# Altium schematic symbol library AVR32UC3.SchLib: 3 symbols
Pins are listed as number, name and electrical type; pins without a type are passive.

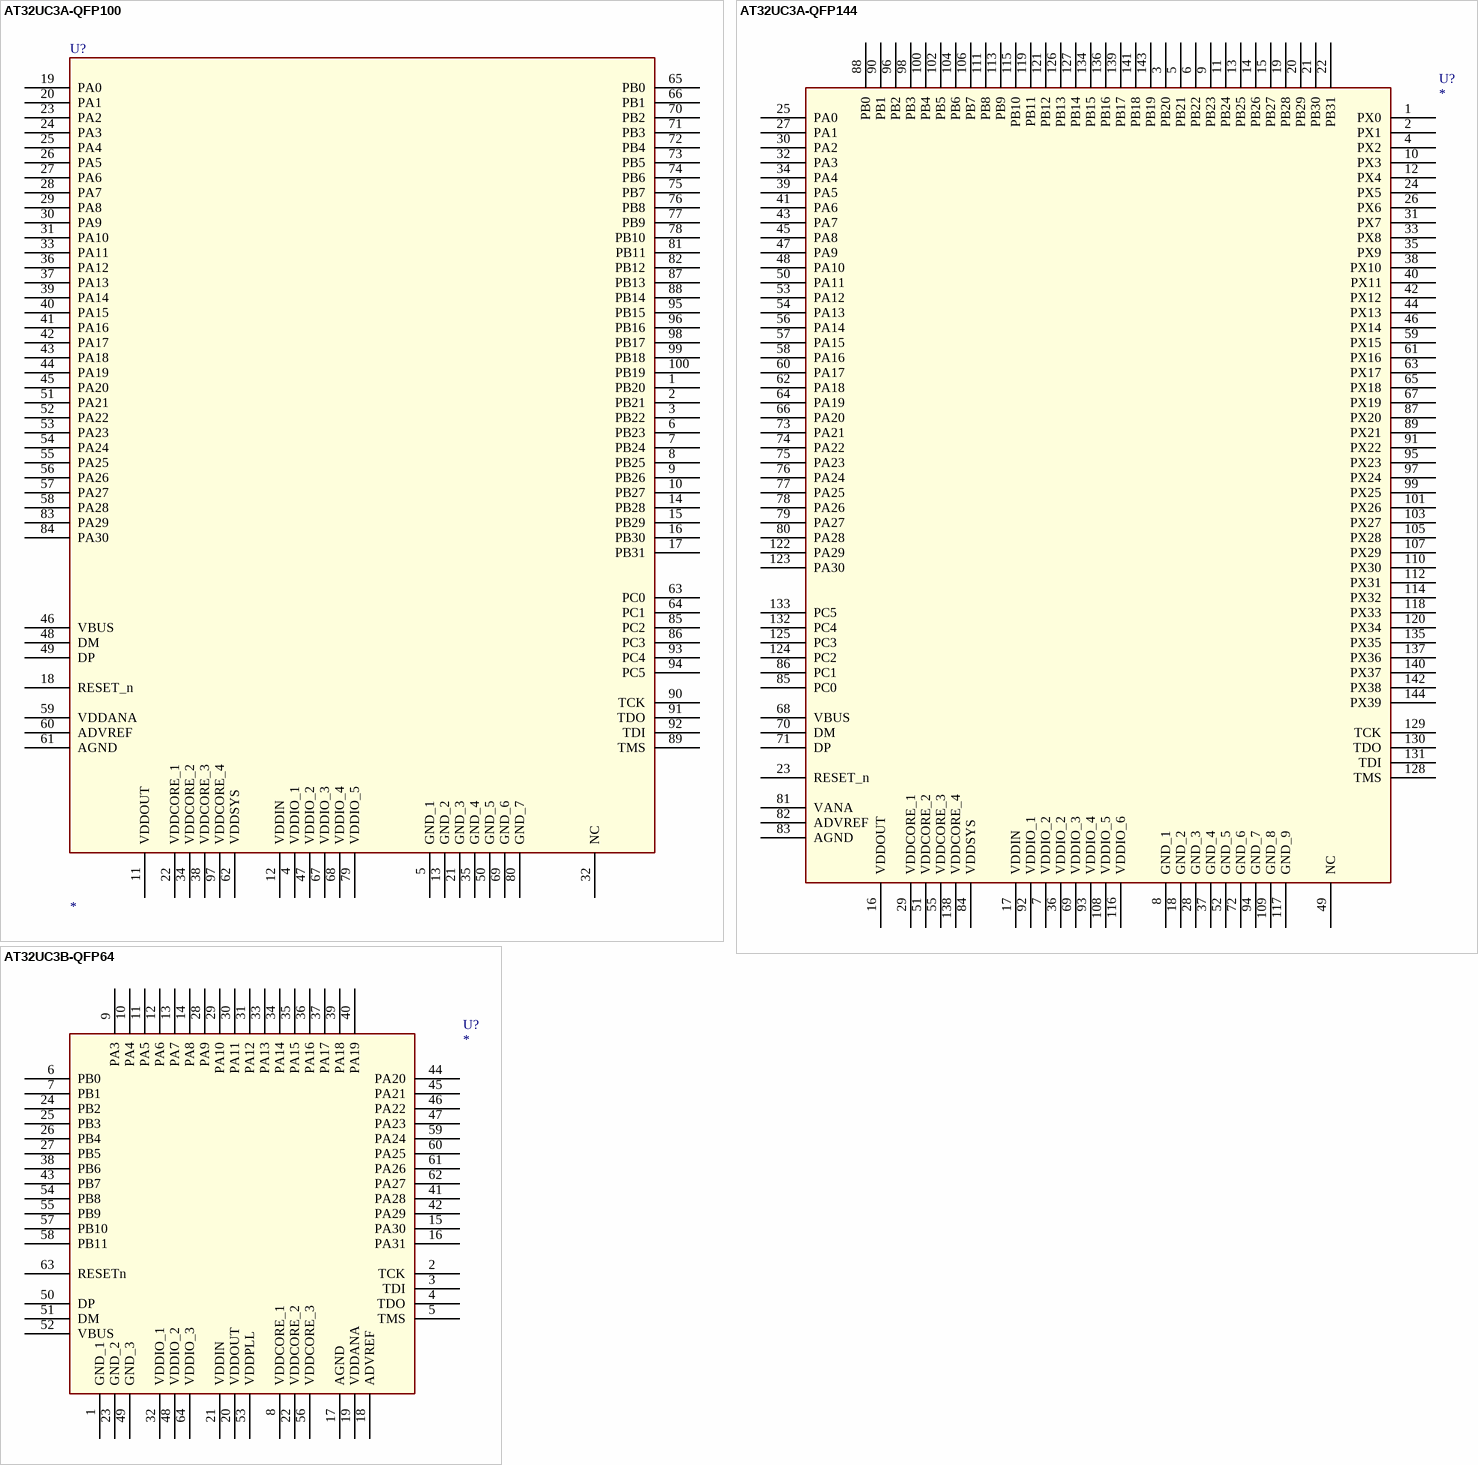
[diagram p0: symbols AT32UC3A-QFP100 to AT32UC3B-QFP64]

## AT32UC3A-QFP100
designator U?
Status: Active; Verified by: Eirik Rasmussen; Verified date: 2006-09-01
pins: 1 PB20, 2 PB21, 3 PB22, 4 VDDIO_1, 5 GND_1, 6 PB23, 7 PB24, 8 PB25, 9 PB26, 10 PB27, 11 VDDOUT, 12 VDDIN, 13 GND_2, 14 PB28, 15 PB29, 16 PB30, 17 PB31, 18 RESET_n, 19 PA0, 20 PA1, 21 GND_3, 22 VDDCORE_1, 23 PA2, 24 PA3, 25 PA4, 26 PA5, 27 PA6, 28 PA7, 29 PA8, 30 PA9, 31 PA10, 32 NC, 33 PA11, 34 VDDCORE_2, 35 GND_4, 36 PA12, 37 PA13, 38 VDDCORE_3, 39 PA14, 40 PA15, 41 PA16, 42 PA17, 43 PA18, 44 PA19, 45 PA20, 46 VBUS, 47 VDDIO_2, 48 DM, 49 DP, 50 GND_5, 51 PA21, 52 PA22, 53 PA23, 54 PA24, 55 PA25, 56 PA26, 57 PA27, 58 PA28, 59 VDDANA, 60 ADVREF, 61 AGND, 62 VDDSYS, 63 PC0, 64 PC1, 65 PB0, 66 PB1, 67 VDDIO_3, 68 VDDIO_4, 69 GND_6, 70 PB2, 71 PB3, 72 PB4, 73 PB5, 74 PB6, 75 PB7, 76 PB8, 77 PB9, 78 PB10, 79 VDDIO_5, 80 GND_7, 81 PB11, 82 PB12, 83 PA29, 84 PA30, 85 PC2, 86 PC3, 87 PB13, 88 PB14, 89 TMS, 90 TCK, 91 TDO, 92 TDI, 93 PC4, 94 PC5, 95 PB15, 96 PB16, 97 VDDCORE_4, 98 PB17, 99 PB18, 100 PB19

## AT32UC3A-QFP144
designator U?
Status: Active; Verified by: Eirik Rasmussen; Verified date: 2006-09-01
pins: 1 PX0, 2 PX1, 3 PB20, 4 PX2, 5 PB21, 6 PB22, 7 VDDIO_2, 8 GND_1, 9 PB23, 10 PX3, 11 PB24, 12 PX4, 13 PB25, 14 PB26, 15 PB27, 16 VDDOUT, 17 VDDIN, 18 GND_2, 19 PB28, 20 PB29, 21 PB30, 22 PB31, 23 RESET_n, 24 PX5, 25 PA0, 26 PX6, 27 PA1, 28 GND_3, 29 VDDCORE_1, 30 PA2, 31 PX7, 32 PA3, 33 PX8, 34 PA4, 35 PX9, 36 VDDIO_2, 37 GND_4, 38 PX10, 39 PA5, 40 PX11, 41 PA6, 42 PX12, 43 PA7, 44 PX13, 45 PA8, 46 PX14, 47 PA9, 48 PA10, 49 NC, 50 PA11, 51 VDDCORE_2, 52 GND_5, 53 PA12, 54 PA13, 55 VDDCORE_3, 56 PA14, 57 PA15, 58 PA16, 59 PX15, 60 PA17, 61 PX16, 62 PA18, 63 PX17, 64 PA19, 65 PX18, 66 PA20, 67 PX19, 68 VBUS, 69 VDDIO_3, 70 DM, 71 DP, 72 GND_6, 73 PA21, 74 PA22, 75 PA23, 76 PA24, 77 PA25, 78 PA26, 79 PA27, 80 PA28, 81 VANA, 82 ADVREF, 83 AGND, 84 VDDSYS, 85 PC0, 86 PC1, 87 PX20, 88 PB0, 89 PX21, 90 PB1, 91 PX22, 92 VDDIO_1, 93 VDDIO_4, 94 GND_7, 95 PX23, 96 PB2, 97 PX24, 98 PB3, 99 PX25, 100 PB4, 101 PX26, 102 PB5, 103 PX27, 104 PB6, 105 PX28, 106 PB7, 107 PX29, 108 VDDIO_5, 109 GND_8, 110 PX30, 111 PB8, 112 PX31, 113 PB9, 114 PX32, 115 PB10, 116 VDDIO_6, 117 GND_9, 118 PX33, 119 PB11, 120 PX34, 121 PB12, 122 PA29, 123 PA30, 124 PC2, 125 PC3, 126 PB13, 127 PB14, 128 TMS, 129 TCK, 130 TDO, 131 TDI, 132 PC4, 133 PC5, 134 PB15, 135 PX35, 136 PB16, 137 PX36, 138 VDDCORE_4, 139 PB17, 140 PX37, 141 PB18, 142 PX38, 143 PB19, 144 PX39

## AT32UC3B-QFP64
designator U?
pins: 1 GND_1, 2 TCK, 3 TDI, 4 TDO, 5 TMS, 6 PB0, 7 PB1, 8 VDDCORE_1, 9 PA3, 10 PA4, 11 PA5, 12 PA6, 13 PA7, 14 PA8, 15 PA30, 16 PA31, 17 AGND, 18 ADVREF, 19 VDDANA, 20 VDDOUT, 21 VDDIN, 22 VDDCORE_2, 23 GND_2, 24 PB2, 25 PB3, 26 PB4, 27 PB5, 28 PA9, 29 PA10, 30 PA11, 31 PA12, 32 VDDIO_1, 33 PA13, 34 PA14, 35 PA15, 36 PA16, 37 PA17, 38 PB6, 39 PA18, 40 PA19, 41 PA28, 42 PA29, 43 PB7, 44 PA20, 45 PA21, 46 PA22, 47 PA23, 48 VDDIO_2, 49 GND_3, 50 DP, 51 DM, 52 VBUS, 53 VDDPLL, 54 PB8, 55 PB9, 56 VDDCORE_3, 57 PB10, 58 PB11, 59 PA24, 60 PA25, 61 PA26, 62 PA27, 63 RESETn, 64 VDDIO_3